# EAGLE library part CY8C29466-24* (library SparkFun-IC-Microcontroller)
CYPRESS MCU 32K FLASH 2K SRAM 28-SOIC Datasheet <https://cdn.sparkfun.com/datasheets/Widgets/CY8C29466-8_2015.pdf> SparkFun Products MP3 Trigger <https://www.sparkfun.com/products/13720> (WIG-13720)
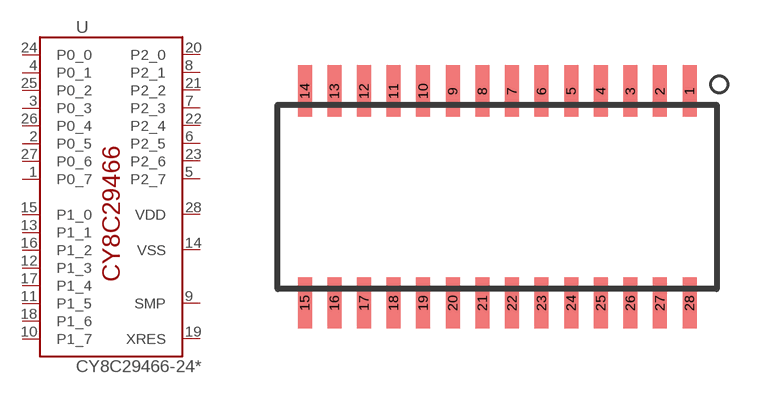
[diagram p6: symbol with the pads of SOIC-28; footprint SOIC-28]

Designator prefix -

## CY8C29466-24 (PROD_ID: IC-08972; VALUE: CY8C29466)  [SOIC-28]
1  P0_7
2  P0_5
3  P0_3
4  P0_1
5  P2_7
6  P2_5
7  P2_3
8  P2_1
9  SMP
10  P1_7
11  P1_5
12  P1_3
13  P1_1
14  VSS  pwr
15  P1_0
16  P1_2
17  P1_4
18  P1_6
19  XRES
20  P2_0
21  P2_2
22  P2_4
23  P2_6
24  P0_0
25  P0_2
26  P0_4
27  P0_6
28  VDD  pwr

## Footprint SOIC-28 (pad centres in mm)
smd 0.6 x 2.2: 1 8.89,4.548; 2 7.62,4.548; 3 6.35,4.548; 4 5.08,4.548; 5 3.81,4.548; 6 2.54,4.548; 7 1.27,4.548; 8 0,4.548; 9 -1.27,4.548; 10 -2.54,4.548; 11 -3.81,4.548; 12 -5.08,4.548; 13 -6.35,4.548; 14 -7.62,4.548; 15 -7.62,-4.548; 16 -6.35,-4.548; 17 -5.08,-4.548; 18 -3.81,-4.548; 19 -2.54,-4.548; 20 -1.27,-4.548; 21 0,-4.548; 22 1.27,-4.548; 23 2.54,-4.548; 24 3.81,-4.548; 25 5.08,-4.548; 26 6.35,-4.548; 27 7.62,-4.548; 28 8.89,-4.548